# Altium schematic symbol library TSX-3225.Schlib: 1 symbol
Pins are listed as number, name and electrical type; pins without a type are passive.

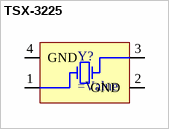
[diagram p0: symbol TSX-3225]

## TSX-3225
designator Y?
=Description
pins: 1, 2 GND (power), 3, 4 GND (power)